# Altium footprint library 常用元件封装.PCBLIB: 174 footprints (part 11 of 11)
Each footprint in its own frame and in the unit in brackets; x right, y up, seen from the top. Pads: shape width x height; smd on the part's side, far side on the other; paste and mask are expansions set on the pad; w line width, h text height; cw(c..) or ccw(c..) is an arc to the next point about the centre after c.
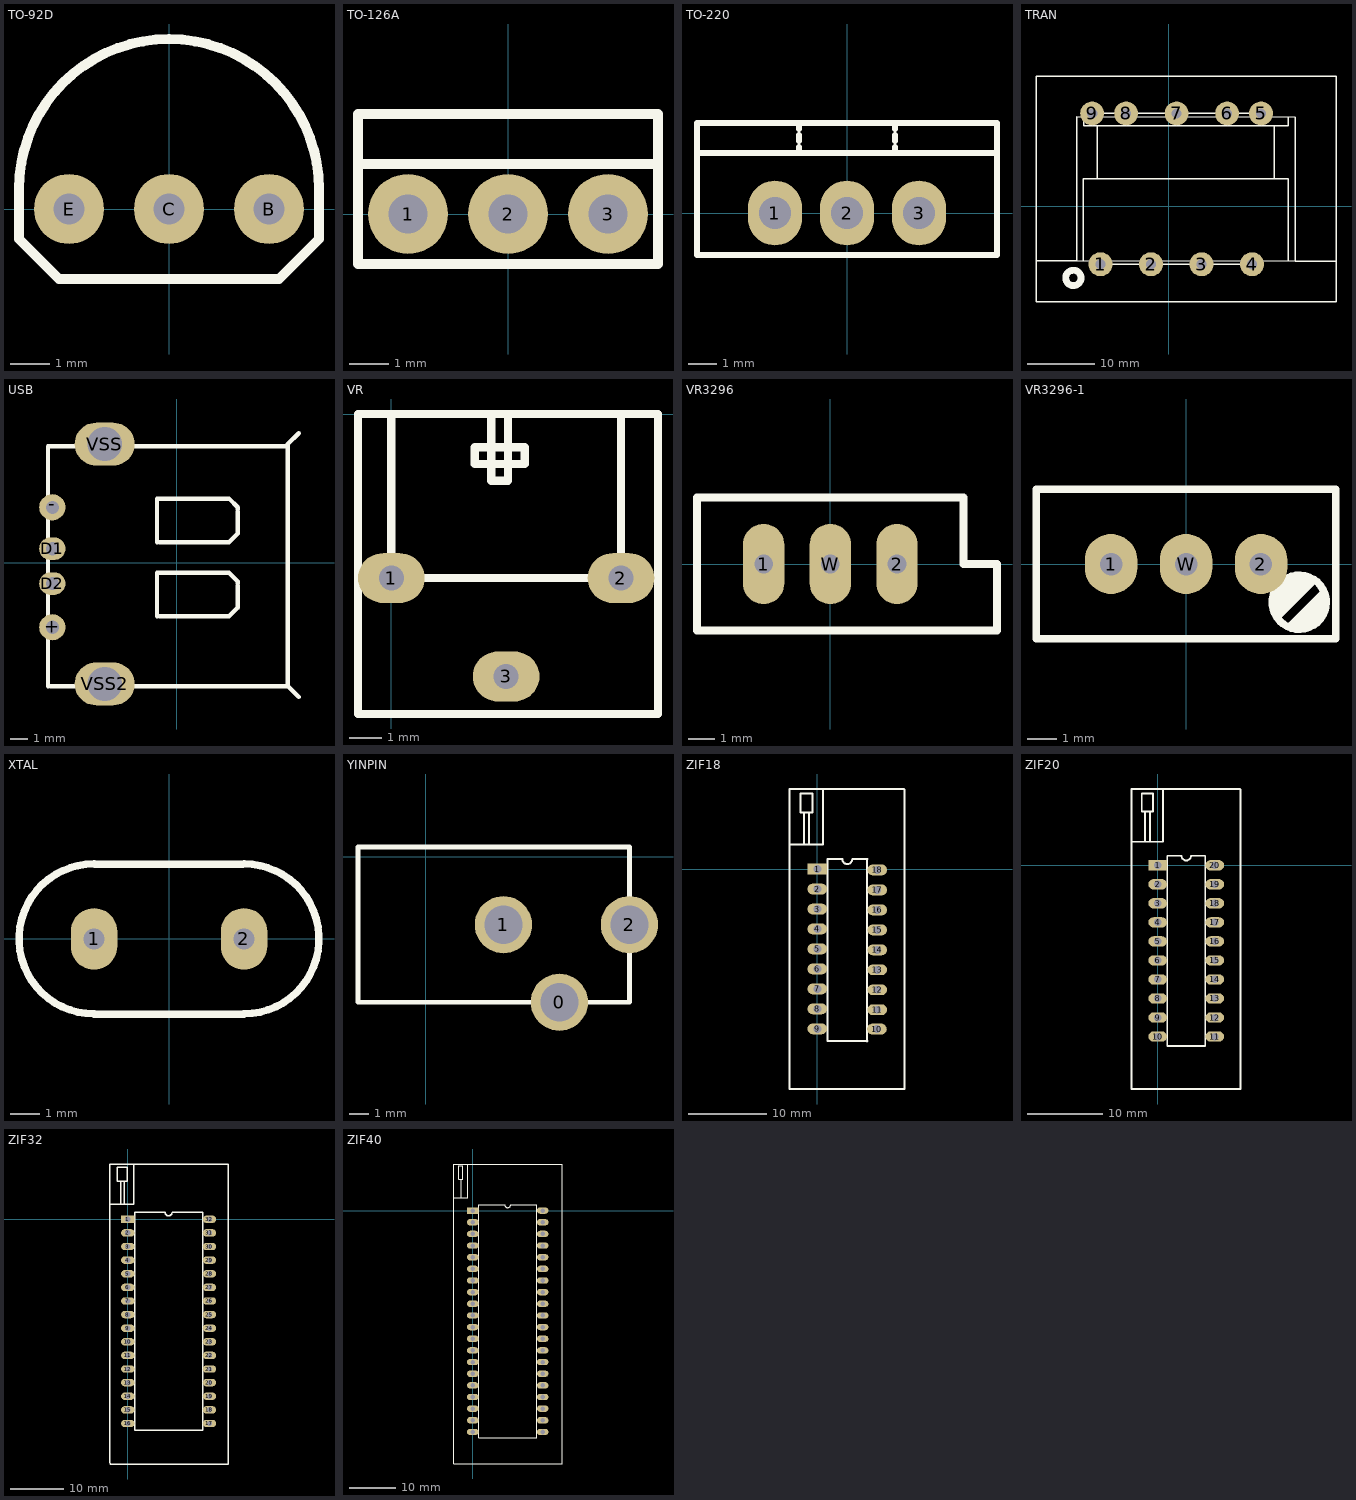
[diagram p10: the footprints below, top view; thin cyan lines are the x and y axes]

## TO-92D [mil]
pads (3):
  round 70 hole 31.5: B(100,0) C(0,0) E(-100,0)
TopOverlay:
  lines w10: -150,-30 -150,20 cw(c0,20) 150,20 150,-30 110,-70 -110,-70 -150,-30

## TO-126A [mil]
pads (3):
  round 80 hole 39: 1(-100,0) 2(0,0) 3(100,0)
TopOverlay:
  lines w10: 150,40 150,100 -150,100 -150,50 ; -150,50 150,50 150,-50 -150,-50 -150,50

## TO-220 [mil]
pads (3):
  oval 75x90 hole 45: 1(-100,0) 2(0,0) 3(100,0)
TopOverlay:
  lines w7.87: -66.67,83.33 -66.67,91.67 ; -66.67,100 -66.67,108.33 ; -66.67,116.67 -66.67,125 ; 66.67,83.33 66.67,91.67 ; 66.67,100 66.67,108.33 ; 66.67,116.67 66.67,125 ; -208.33,83.33 208.33,83.33 ; -208.33,83.33 -208.33,-58.33 208.33,-58.33 208.33,83.33 ; -208.33,83.33 -208.33,125 208.33,125 208.33,83.33

## TRAN [mil]
pads (9):
  round 140 hole 60: 1(-400,-340) 2(-104,-340) 3(192,-340) 4(488,-340) 5(541,544) 6(342,544) 7(46,544) 8(-250,544) 9(-449,544)
TopOverlay:
  circle w40: c-559.1,-420 r45.1
  lines w8: -778,-319 -540,-319 ; -500,-318 -500,160 -460,160 660,160 699,160 699,-321 ; -498,523 -498,471 698,471 699,472 699,521 ; -450,544 541,544 ; -420,160 -420,469 ; -402,-340 488,-340 ; 617,160 617,470 ; 980,-321 742,-321 ; -540,-319 -540,523 742,521 742,-321 ; -540,-319 742,-321 ; -778,-561 980,-561 980,763 -778,763 -778,-561

## USB [mm]
pads (6):
  round 1.524 hole 0.762: +(-7.255,-3.757) -(-7.255,3.228)
  oval 1.524x1.324 hole 0.762: D1(-7.255,0.815) D2(-7.255,-1.217)
  oval 3.5x2.5 hole 2: VSS(-4.207,6.911) VSS2(-4.207,-7.059)
TopOverlay:
  lines w0.254: -7.509,-7.186 -7.509,6.784 6.461,6.784 ; -7.382,-7.186 6.461,-7.186 ; -1.159,-3.122 -1.159,-0.582 3.032,-0.582 3.54,-1.09 3.54,-1.217 ; -1.159,1.196 -1.159,3.736 3.032,3.736 3.54,3.228 3.54,3.101 ; -1.032,-3.122 3.032,-3.122 3.54,-2.614 3.54,-1.344 ; -1.032,1.196 3.032,1.196 3.54,1.704 3.54,2.974 ; 7.096,-7.821 6.461,-7.186 ; 7.096,7.546 6.461,6.911 6.461,6.784 ; 6.461,-7.186 6.461,6.784

## VR [mil]
pads (3):
  oval 80x60 hole 30: 1(0,-196.85) 2(275.59,-196.85) 3(137.8,-314.96)
TopOverlay:
  lines w10: 120,0 120,-80 140,-80 140,0 ; 0,0 275.59,0 ; 0,0 0,-196.85 275.59,-196.85 275.59,0 ; 0,0 -40,0 -40,-360 320,-360 320,-300 320,0 275.59,0 ; 100,-60 160,-60 160,-40 100,-40 100,-60

## VR3296 [mil]
pads (3):
  oval 62x120 hole 28: 1(-100,0) 2(100,0) W(0,0)
TopOverlay:
  lines w12: -200,-100 -200,100 200,100 200,0 250,0 250,-100 -200,-100

## VR3296-1 [mil]
pads (3):
  oval 70x80 hole 30: 1(-100,0) 2(100,0) W(0,0)
TopOverlay:
  circle w10: c151,-51 r36.06
  lines w10: 157.76,-74.24 164.24,-74.24 171,-81 ; 171,-21 151,-41 121,-71 121,-61 161,-21 141,-21 ; 172.88,-79.12 171,-81 ; 181,-41 141,-81 151,-81 ; 131,-31 141,-31 ; 131,-31 141,-21 ; 131,-31 121,-41 121,-51 141,-31 ; 141,-31 151,-31 141,-21 ; 141,-31 141,-21 ; 151,-81 166.82,-65.18 172.88,-65.18 187.06,-51 187.06,-47.06 172.88,-61.23 170.77,-61.23 171,-61.47 171,-81 ; 151,-81 171,-81 ; -200,-100 -200,100 200,100 200,-100 0,-100 -200,-100

## XTAL [mil]
pads (2):
  oval 62x82 hole 28: 1(-100,0) 2(100,0)
TopOverlay:
  lines w10: -100,-100.39 99.8,-100.39 ; -100,-100 cw(c-100,0) -100,100 ; -99.02,99.41 98.62,99.37 ; 100,-100 ccw(c100,0) 100,100

## YINPIN [mm]
pads (3):
  round 3 hole 2: 0(7,-7.62) 1(4.064,-3.556) 2(10.668,-3.556)
TopOverlay:
  lines w0.254: -3.556,-7.62 -3.556,0.508 10.668,0.508 10.668,-7.62 -3.556,-7.62

## ZIF18 [mm]
pads (18):
  rect 2.5x1.38 hole 1: 1(0,0)
  oval 2.5x1.38 hole 1: 2(0,-2.54) 3(0,-5.08) 4(0,-7.62) 5(0,-10.16) 6(0,-12.7) 7(0,-15.24) 8(0,-17.78) 9(0,-20.32) 10(7.578,-20.354) 11(7.62,-17.894) 12(7.62,-15.354) 13(7.62,-12.814) 14(7.62,-10.274) 15(7.62,-7.734) 16(7.62,-5.194) 17(7.62,-2.654) 18(7.62,-0.114)
TopOverlay:
  lines w0.254: -3.535,-27.974 11.007,-27.974 ; -3.535,-27.821 -3.522,-18.236 -3.522,-7.112 -3.522,10.186 -3.252,10.186 11.022,10.186 ; -3.522,3.148 0.726,3.148 0.726,10.15 ; -1.686,3.238 -1.686,7.198 ; -1.038,3.148 -1.038,7.198 ; 6.346,-21.916 6.346,1.249 ; 6.35,-21.895 1.27,-21.895 1.27,1.27 3.175,1.27 ccw(c3.81,1.27) 4.445,1.27 6.35,1.27 ; 11.058,-27.974 11.076,-17.984 11.076,-6.986 11.076,10.132 ; -2.136,7.216 -2.118,7.198 -0.606,7.198 -0.606,9.574 -0.642,9.61 -2.136,9.61 -2.136,7.216

## ZIF20 [mm]
pads (20):
  rect 2.5x1.38 hole 1: 1(0,0)
  oval 2.5x1.38 hole 1: 2(0,-2.54) 3(0,-5.08) 4(0,-7.62) 5(0,-10.16) 6(0,-12.7) 7(0,-15.24) 8(0,-17.78) 9(0,-20.32) 10(0,-22.86) 11(7.62,-22.86) 12(7.62,-20.32) 13(7.62,-17.78) 14(7.62,-15.24) 15(7.62,-12.7) 16(7.62,-10.16) 17(7.62,-7.62) 18(7.62,-5.08) 19(7.62,-2.54) 20(7.62,0)
TopOverlay:
  lines w0.254: -3.522,-29.828 -3.522,-18.236 -3.522,-7.112 -3.522,10.186 -3.252,10.186 11.022,10.186 ; -3.522,3.148 0.726,3.148 0.726,10.15 ; -3.486,-29.864 7.602,-29.864 9.87,-29.864 11.04,-29.864 ; -1.686,3.238 -1.686,7.198 ; -1.038,3.148 -1.038,7.198 ; 11.076,-29.828 11.076,-17.984 11.076,-6.986 11.076,10.132 ; -2.136,7.216 -2.118,7.198 -0.606,7.198 -0.606,9.574 -0.642,9.61 -2.136,9.61 -2.136,7.216 ; 1.27,-24.13 6.35,-24.13 6.35,1.27 4.445,1.27 cw(c3.81,1.27) 3.175,1.27 1.27,1.27 1.27,-24.13

## ZIF32 [mm]
pads (32):
  rect 2.5x1.38 hole 1: 1(0,0)
  oval 2.5x1.38 hole 1: 2(0,-2.54) 3(0,-5.08) 4(0,-7.62) 5(0,-10.16) 6(0,-12.7) 7(0,-15.24) 8(0,-17.78) 9(0,-20.32) 10(0,-22.86) 11(0,-25.4) 12(0,-27.94) 13(0,-30.48) 14(0,-33.02) 15(0,-35.56) 16(0,-38.1) 17(15.24,-38.1) 18(15.24,-35.56) 19(15.24,-33.02) 20(15.24,-30.48) 21(15.24,-27.94) 22(15.24,-25.4) 23(15.24,-22.86) 24(15.24,-20.32) 25(15.24,-17.78) 26(15.24,-15.24) 27(15.24,-12.7) 28(15.24,-10.16) 29(15.24,-7.62) 30(15.24,-5.08) 31(15.24,-2.54) 32(15.24,0)
TopOverlay:
  lines w0.254: -3.322,2.794 1.034,2.794 1.088,2.848 1.088,10.318 ; -3.07,10.318 18.71,10.318 18.71,-2.354 18.71,-7.97 18.71,-45.662 -3.304,-45.662 -3.322,-45.23 -3.322,-9.734 -3.322,-2.444 -3.322,9.922 -3.322,10.318 -2.242,10.318 ; -1.324,2.794 -1.324,7.078 ; -0.694,2.794 -0.694,7.078 ; -1.99,7.078 -1.99,9.706 -0.118,9.706 -0.118,7.078 -1.99,7.078 ; 1.27,-39.37 13.97,-39.37 13.97,1.27 8.255,1.27 cw(c7.62,1.27) 6.985,1.27 1.27,1.27 1.27,-39.37

## ZIF40 [mm]
pads (40):
  rect 2.5x1.38 hole 1: 1(0,0)
  oval 2.5x1.38 hole 1: 2(0,-2.54) 3(0,-5.08) 4(0,-7.62) 5(0,-10.16) 6(0,-12.7) 7(0,-15.24) 8(0,-17.78) 9(0,-20.32) 10(0,-22.86) 11(0,-25.4) 12(0,-27.94) 13(0,-30.48) 14(0,-33.02) 15(0,-35.56) 16(0,-38.1) 17(0,-40.64) 18(0,-43.18) 19(0,-45.72) 20(0,-48.26) 21(15.24,-48.26) 22(15.24,-45.72) 23(15.24,-43.18) 24(15.24,-40.64) 25(15.24,-38.1) 26(15.24,-35.56) 27(15.24,-33.02) 28(15.24,-30.48) 29(15.24,-27.94) 30(15.24,-25.4) 31(15.24,-22.86) 32(15.24,-20.32) 33(15.24,-17.78) 34(15.24,-15.24) 35(15.24,-12.7) 36(15.24,-10.16) 37(15.24,-7.62) 38(15.24,-5.08) 39(15.24,-2.54) 40(15.24,0)
TopOverlay:
  lines w0.254: -4.191,0 -4.191,10.16 19.558,10.16 19.558,0 19.558,-55.245 -1.397,-55.245 ; -4.191,0.762 -4.191,-55.245 -1.27,-55.245 ; -4.064,2.794 -1.143,2.794 -1.143,4.953 -1.143,10.16 ; -2.54,2.794 -2.54,6.858 ; -2.159,6.985 -2.159,6.858 ; -2.159,6.858 -2.159,9.779 -3.048,9.779 -3.048,6.858 -2.159,6.858 ; 1.27,-49.53 1.27,1.27 6.985,1.27 ccw(c7.62,1.27) 8.255,1.27 13.97,1.27 13.97,-49.53 1.27,-49.53